# Altium schematic symbol library OpAmp.SchLib: 3 symbols
Pins are listed as number, name and electrical type; pins without a type are passive.

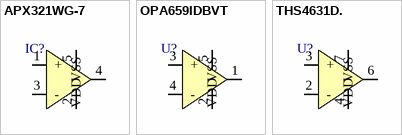
[diagram p0: symbols APX321WG-7 to THS4631D.]

## APX321WG-7
designator IC?  (value not drawn)
Op Amp 1MHz +/-5.5V; Manufacturer: DIODES INC; Ordercode: APX321WG-7; Part Specification: 1MHz +/-5.5V; Temperature Range: -40°C to +85°C
footprint SOT23-5_N (SOT23, 5-Leads, Body 2,90x2,65mm, Pitch 0,95mm, IPC Medium Density)
pins: 1 +, 2 VSS, 3 -, 4 OUT, 5 VDD

## OPA659IDBVT
designator U?  (value not drawn)
Op Amp 650MHz +/-6.5V; Manufacturer: TEXAS INSTRUMENTS; Ordercode: OPA659IDBVT; Part Specification: 650MHz +/-6.5V; Temperature Range: -40°C to +85°C
footprint SOT23-5_N (SOT23, 5-Leads, Body 2,90x2,65mm, Pitch 0,95mm, IPC Medium Density)
pins: 1 OUT, 2 VSS, 3 +, 4 -, 5 VDD

## THS4631D.
designator U?  (value not drawn)
Op Amp 210MHz +/-15V; Manufacturer: TEXAS INSTRUMENTS; Ordercode: THS4631D.; Part Specification: 210MHz +/-15V; Temperature Range: -40°C to +85°C
footprint SOIC-8_6mm_N (SOIC, 8-Leads, Body 4,90x3,90mm, Pitch 1,27mm, IPC Medium Density)
pins: 2 -, 3 +, 4 VSS, 6 OUT, 7 VDD